# EAGLE library part ATSAMD11D14A-UUT (library pimoroni-ics)
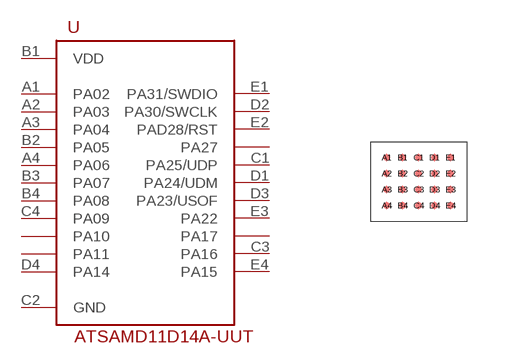
[diagram p84: symbol with the pads of WLCSP-20; footprint WLCSP-20]

Designator prefix -

## ATSAMD11D14A-UUT  [WLCSP-20]
A1  PA02
A2  PA03
A3  PA04
A4  PA06
B1  VDD
B2  PA05
B3  PA07
B4  PA08
C1  PA25/UDP
C2  GND
C3  PA16
C4  PA09
D1  PA24/UDM
D2  PA30/SWCLK
D3  PA23/USOF
D4  PA14
E1  PA31/SWDIO
E2  PAD28/RST
E3  PA22
E4  PA15

## Footprint WLCSP-20 (pad centres in mm)
smd 0.18 x 0.18: A1 -0.8,0.6; A2 -0.8,0.2; A3 -0.8,-0.2; A4 -0.8,-0.6; B1 -0.4,0.6; B2 -0.4,0.2; B3 -0.4,-0.2; B4 -0.4,-0.6; C1 0,0.6; C2 0,0.2; C3 0,-0.2; C4 0,-0.6; D1 0.4,0.6; D2 0.4,0.2; D3 0.4,-0.2; D4 0.4,-0.6; E1 0.8,0.6; E2 0.8,0.2; E3 0.8,-0.2; E4 0.8,-0.6